# EAGLE library part BH1790GLC (library mille-feuille)
Optical Sensor for Heart Rate Monitor IC
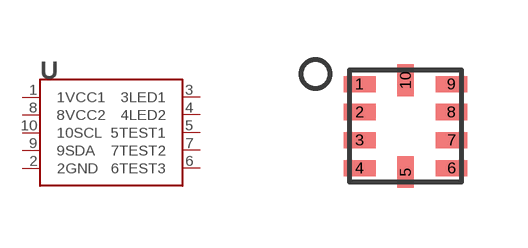
[diagram p42: symbol with the pads of WLGA010V28; footprint WLGA010V28]

Designator prefix U

## BH1790GLC  [WLGA010V28]
1  1VCC1
2  2GND
3  3LED1
4  4LED2
5  5TEST1
6  6TEST3
7  7TEST2
8  8VCC2
9  9SDA
10  10SCL

## Footprint WLGA010V28 (pad centres in mm)
smd 0.8 x 0.4: 1 -1.15,1.05; 2 -1.15,0.35; 3 -1.15,-0.35; 4 -1.15,-1.05; 6 1.15,-1.05; 7 1.15,-0.35; 8 1.15,0.35; 9 1.15,1.05
smd 0.4 x 0.8: 5 0,-1.15; 10 0,1.15